# Altium integrated library Altium_WR-HDMI-Communication+Connectors_rev22a.IntLib: 5 symbols
Pins are listed as number, name and electrical type; pins without a type are passive.

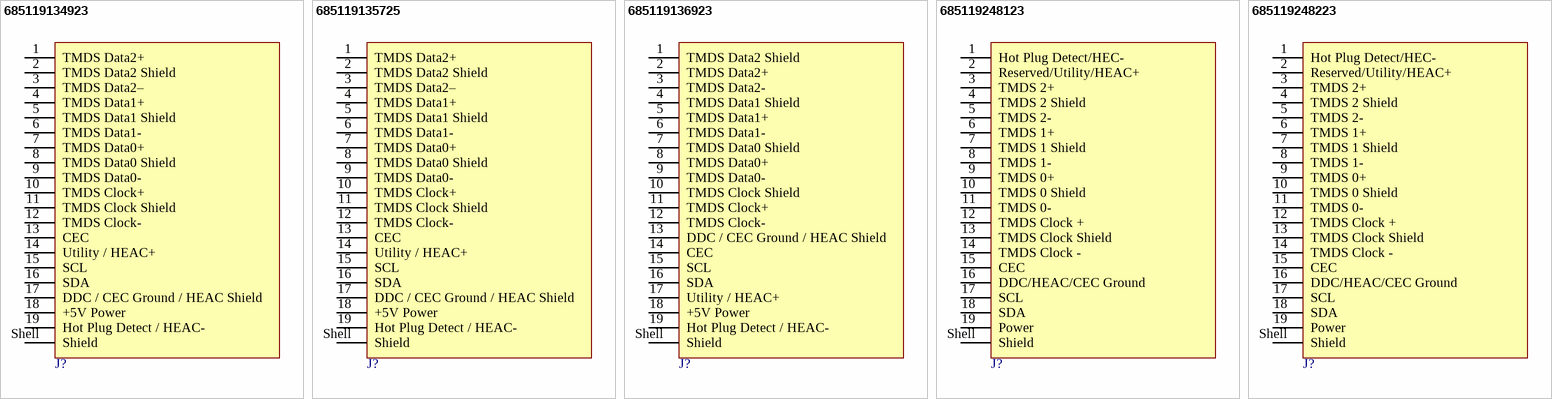
[diagram p0: symbols 685119134923 to 685119248223]

## 685119134923
designator J?  (value not drawn)
WR-COM HDMI SMT Horizontal, Receptacle, Type A; Manufacturer: Wurth Elektronik; Match Code: WR-HDMI; Connector Type: Type A; Contact Resistance: 30mOhm; Rated Current: 0.5A; Working Voltage: 40VAC; Manufacturer Part Number: 685119134923; Category: Input/Output Connectors; ComponentLink1Description: Website Link; ComponentLink1URL: https://www.we-online.com/redexpert/article/685119134923?ad; ComponentLink2Description: Datasheet Link; ComponentLink2URL: https://www.we-online.com/redexpert/spec/685119134923?ad; Mount: Surface Mount; Operating Temperature Max: 85°C; Operating Temperature Min: -25°C; Packaging: Tape and Reel; Gender: Receptacle; Number of Pins: 19; Orientation: Horizontal
footprint 685119134923
pins: 1 TMDS Data2+, 2 TMDS Data2 Shield, 3 TMDS Data2–, 4 TMDS Data1+, 5 TMDS Data1 Shield, 6 TMDS Data1-, 7 TMDS Data0+, 8 TMDS Data0 Shield, 9 TMDS Data0-, 10 TMDS Clock+, 11 TMDS Clock Shield, 12 TMDS Clock-, 13 CEC, 14 Utility / HEAC+, 15 SCL, 16 SDA, 17 DDC / CEC Ground / HEAC Shield, 18 +5V Power, 19 Hot Plug Detect / HEAC-, Shell Shield

## 685119135725
designator J?  (value not drawn)
WR-COM HDMI SMT with M3 screw Horizontal, Receptacle, Type A; Manufacturer: Wurth Elektronik; Match Code: WR-HDMI; Connector Type: Type A; Contact Resistance: 30mOhm; Rated Current: 0.5A; Working Voltage: 40VAC; Manufacturer Part Number: 685119135725; Category: Input/Output Connectors; ComponentLink1Description: Website Link; ComponentLink1URL: https://www.we-online.com/redexpert/article/685119135725?ad; ComponentLink2Description: Datasheet Link; ComponentLink2URL: https://www.we-online.com/redexpert/spec/685119135725?ad; Mount: Surface Mount; Operating Temperature Max: 85°C; Operating Temperature Min: -25°C; Packaging: Tray; Gender: Receptacle; Number of Pins: 19; Orientation: Horizontal
footprint 685119135725
pins: 1 TMDS Data2+, 2 TMDS Data2 Shield, 3 TMDS Data2–, 4 TMDS Data1+, 5 TMDS Data1 Shield, 6 TMDS Data1-, 7 TMDS Data0+, 8 TMDS Data0 Shield, 9 TMDS Data0-, 10 TMDS Clock+, 11 TMDS Clock Shield, 12 TMDS Clock-, 13 CEC, 14 Utility / HEAC+, 15 SCL, 16 SDA, 17 DDC / CEC Ground / HEAC Shield, 18 +5V Power, 19 Hot Plug Detect / HEAC-, Shell Shield

## 685119136923
designator J?  (value not drawn)
WR-COM HDMI SMT Horizontal, Receptacle, Type C; Manufacturer: Wurth Elektronik; Match Code: WR-HDMI; Connector Type: Type C; Contact Resistance: 30mOhm; Rated Current: 0.5A; Working Voltage: 40VAC; Manufacturer Part Number: 685119136923; Category: Input/Output Connectors; ComponentLink1Description: Website Link; ComponentLink1URL: https://www.we-online.com/redexpert/article/685119136923?ad; ComponentLink2Description: Datasheet Link; ComponentLink2URL: https://www.we-online.com/redexpert/spec/685119136923?ad; Mount: Surface Mount; Operating Temperature Max: 85°C; Operating Temperature Min: -25°C; Packaging: Tape and Reel; Gender: Receptacle; Number of Pins: 19; Orientation: Horizontal
footprint 685119136923
pins: 1 TMDS Data2 Shield, 2 TMDS Data2+, 3 TMDS Data2-, 4 TMDS Data1 Shield, 5 TMDS Data1+, 6 TMDS Data1-, 7 TMDS Data0 Shield, 8 TMDS Data0+, 9 TMDS Data0-, 10 TMDS Clock Shield, 11 TMDS Clock+, 12 TMDS Clock-, 13 DDC / CEC Ground / HEAC Shield, 14 CEC, 15 SCL, 16 SDA, 17 Utility / HEAC+, 18 +5V Power, 19 Hot Plug Detect / HEAC-, Shell Shield

## 685119248123
designator J?  (value not drawn)
WR-COM HDMI SMT Horizontal, Receptacle, Type D; Manufacturer: Wurth Elektronik; Match Code: WR-HDMI; Connector Type: Type D; Contact Resistance: 30mOhm; Rated Current: 0.5A; Working Voltage: 40VAC; Manufacturer Part Number: 685119248123; Category: Input/Output Connectors; ComponentLink1Description: Website Link; ComponentLink1URL: https://www.we-online.com/redexpert/article/685119248123?ad; ComponentLink2Description: Datasheet Link; ComponentLink2URL: https://www.we-online.com/redexpert/spec/685119248123?ad; Mount: Surface Mount; Operating Temperature Max: 85°C; Operating Temperature Min: -25°C; Packaging: Tape and Reel; Gender: Receptacle; Number of Pins: 19; Orientation: Horizontal
footprint 685119248123
pins: 1 Hot Plug Detect/HEC-, 2 Reserved/Utility/HEAC+, 3 TMDS 2+, 4 TMDS 2 Shield, 5 TMDS 2-, 6 TMDS 1+, 7 TMDS 1 Shield, 8 TMDS 1-, 9 TMDS 0+, 10 TMDS 0 Shield, 11 TMDS 0-, 12 TMDS Clock +, 13 TMDS Clock Shield, 14 TMDS Clock -, 15 CEC, 16 DDC/HEAC/CEC Ground, 17 SCL, 18 SDA, 19 Power, Shell Shield

## 685119248223
designator J?  (value not drawn)
WR-COM HDMI SMT Hybrid Mount Horizontal, Receptacle, Type D; Manufacturer: Wurth Elektronik; Match Code: WR-HDMI; Connector Type: Type D; Contact Resistance: 30mOhm; Rated Current: 0.5A; Working Voltage: 40VAC; Manufacturer Part Number: 685119248223; Category: Input/Output Connectors; ComponentLink1Description: Website Link; ComponentLink1URL: https://www.we-online.com/redexpert/article/685119248223?ad; ComponentLink2Description: Datasheet Link; ComponentLink2URL: https://www.we-online.com/redexpert/spec/685119248223?ad; Mount: Surface Mount; Operating Temperature Max: 85°C; Operating Temperature Min: -40°C; Packaging: Tape and Reel; Gender: Receptacle; Number of Pins: 19; Orientation: Horizontal
footprint 685119248223
pins: 1 Hot Plug Detect/HEC-, 2 Reserved/Utility/HEAC+, 3 TMDS 2+, 4 TMDS 2 Shield, 5 TMDS 2-, 6 TMDS 1+, 7 TMDS 1 Shield, 8 TMDS 1-, 9 TMDS 0+, 10 TMDS 0 Shield, 11 TMDS 0-, 12 TMDS Clock +, 13 TMDS Clock Shield, 14 TMDS Clock -, 15 CEC, 16 DDC/HEAC/CEC Ground, 17 SCL, 18 SDA, 19 Power, Shell Shield